# Altium integrated library con-amp-quick.IntLib: 60 symbols
Pins are listed as number, name and electrical type; pins without a type are passive.

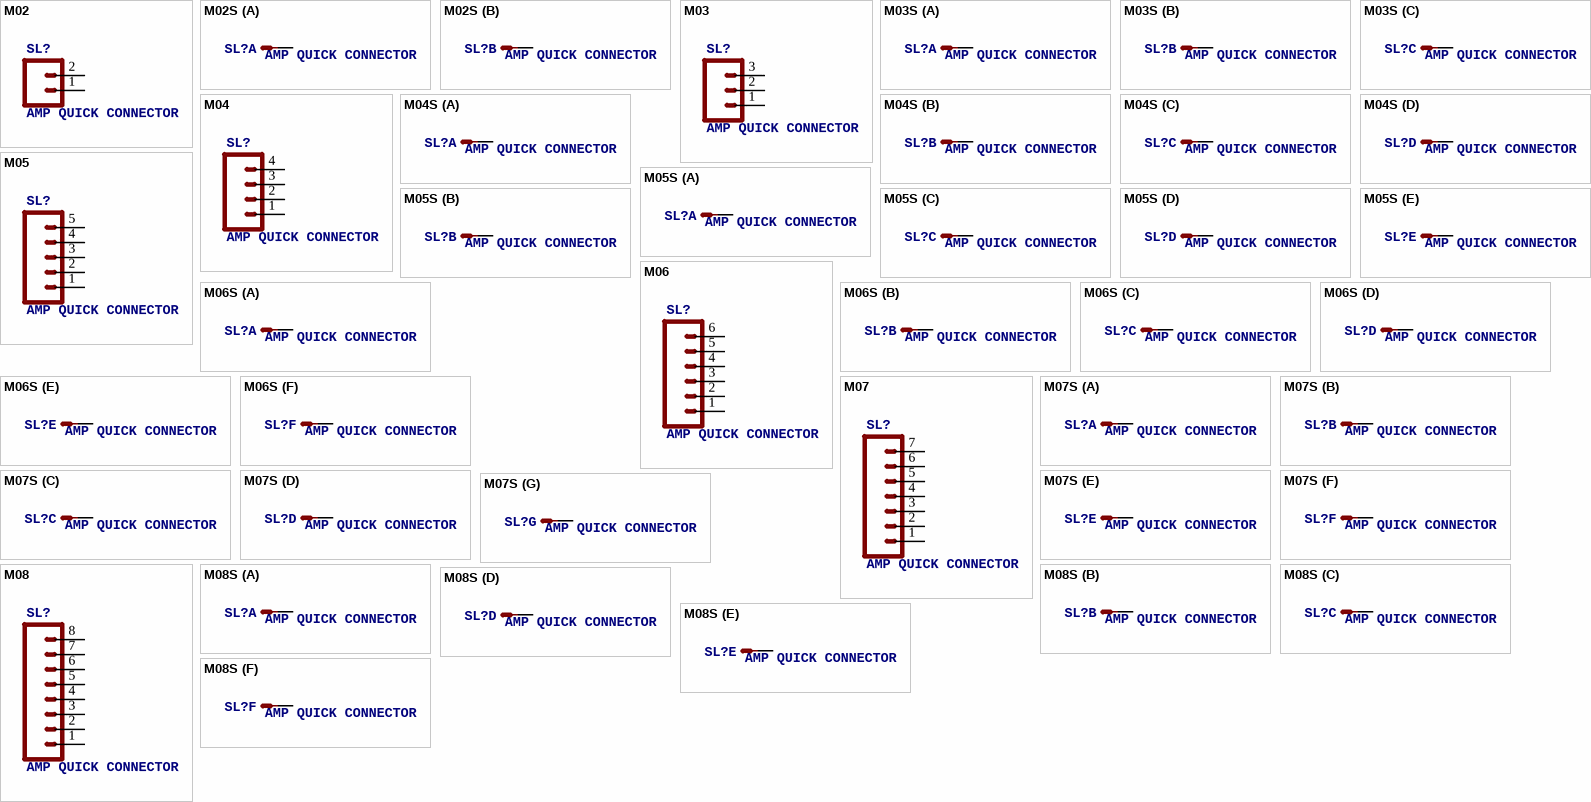
[diagram p0: symbols M02 to M08S]

## M02
designator SL?, comment AMP QUICK CONNECTOR
OC_FARNELL: unknown; OC_NEWARK: unknown
footprint 02P
pins: 1, 2

## M02S
designator SL?, comment AMP QUICK CONNECTOR
OC_FARNELL: unknown; OC_NEWARK: unknown
footprint 02P
part A pins: 1 S
part B pins: 2 S

## M03
designator SL?, comment AMP QUICK CONNECTOR
OC_FARNELL: unknown; OC_NEWARK: unknown
footprint 03P
pins: 1, 2, 3

## M03S
designator SL?, comment AMP QUICK CONNECTOR
OC_FARNELL: unknown; OC_NEWARK: unknown
footprint 03P
part A pins: 1 S
part B pins: 2 S
part C pins: 3 S

## M04
designator SL?, comment AMP QUICK CONNECTOR
OC_FARNELL: unknown; OC_NEWARK: unknown
footprint 04P
pins: 1, 2, 3, 4

## M04S
designator SL?, comment AMP QUICK CONNECTOR
OC_FARNELL: unknown; OC_NEWARK: unknown
footprint 04P
part A pins: 1 S
part B pins: 2 S
part C pins: 3 S
part D pins: 4 S

## M05
designator SL?, comment AMP QUICK CONNECTOR
OC_FARNELL: unknown; OC_NEWARK: unknown
footprint 05P
pins: 1, 2, 3, 4, 5

## M05S
designator SL?, comment AMP QUICK CONNECTOR
OC_FARNELL: unknown; OC_NEWARK: unknown
footprint 05P
part A pins: 1 S
part B pins: 2 S
part C pins: 3 S
part D pins: 4 S
part E pins: 5 S

## M06
designator SL?, comment AMP QUICK CONNECTOR
OC_FARNELL: unknown; OC_NEWARK: unknown
footprint 06P
pins: 1, 2, 3, 4, 5, 6

## M06S
designator SL?, comment AMP QUICK CONNECTOR
OC_FARNELL: unknown; OC_NEWARK: unknown
footprint 06P
part A pins: 1 S
part B pins: 2 S
part C pins: 3 S
part D pins: 4 S
part E pins: 5 S
part F pins: 6 S

## M07
designator SL?, comment AMP QUICK CONNECTOR
OC_FARNELL: unknown; OC_NEWARK: unknown
footprint 07P
pins: 1, 2, 3, 4, 5, 6, 7

## M07S
designator SL?, comment AMP QUICK CONNECTOR
OC_FARNELL: unknown; OC_NEWARK: unknown
footprint 07P
part A pins: 1 S
part B pins: 2 S
part C pins: 3 S
part D pins: 4 S
part E pins: 5 S
part F pins: 6 S
part G pins: 7 S

## M08
designator SL?, comment AMP QUICK CONNECTOR
OC_FARNELL: unknown; OC_NEWARK: unknown
footprint 08P
pins: 1, 2, 3, 4, 5, 6, 7, 8

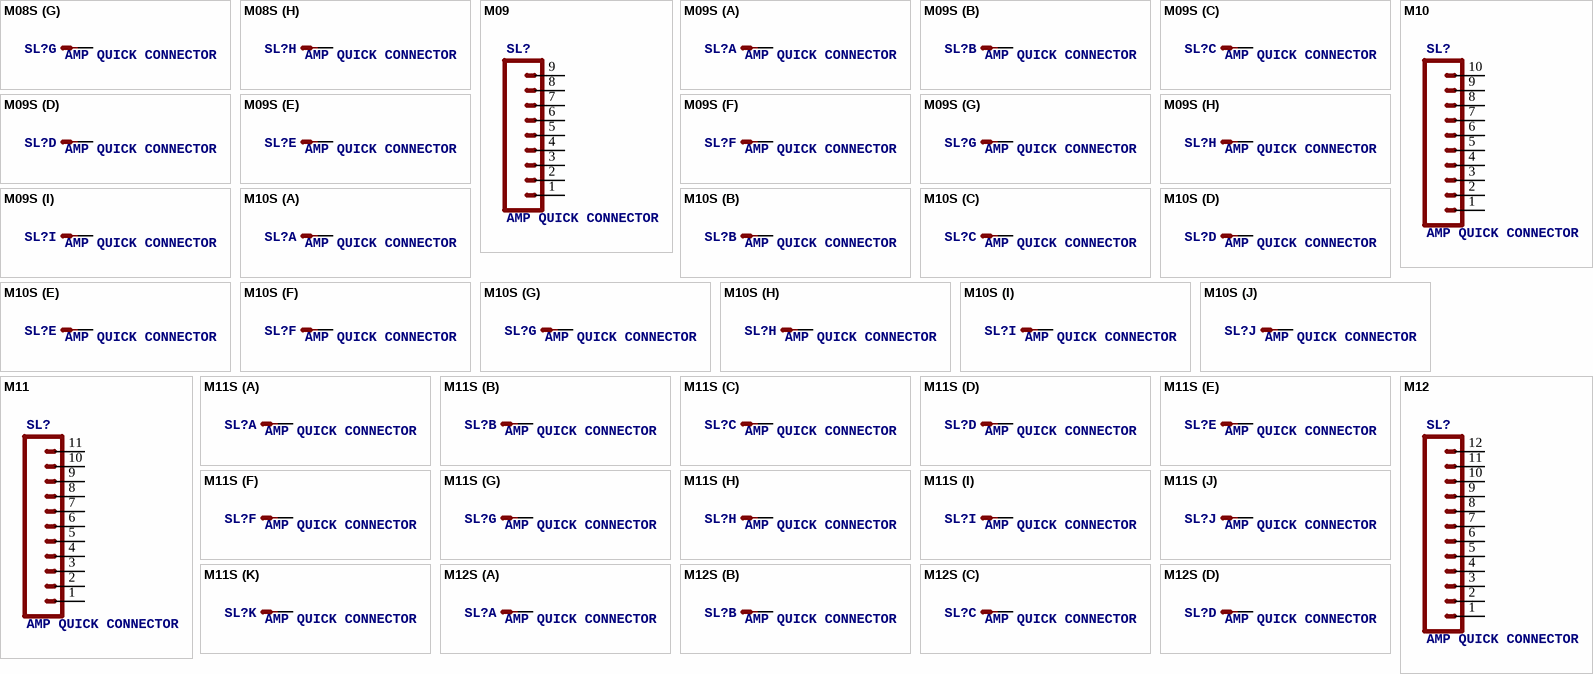
[diagram p1: symbols M08S to M12S]

## M08S
designator SL?, comment AMP QUICK CONNECTOR
OC_FARNELL: unknown; OC_NEWARK: unknown
footprint 08P
part A pins: 1 S
part B pins: 2 S
part C pins: 3 S
part D pins: 4 S
part E pins: 5 S
part F pins: 6 S
part G pins: 7 S
part H pins: 8 S

## M09
designator SL?, comment AMP QUICK CONNECTOR
OC_FARNELL: unknown; OC_NEWARK: unknown
footprint 09P
pins: 1, 2, 3, 4, 5, 6, 7, 8, 9

## M09S
designator SL?, comment AMP QUICK CONNECTOR
OC_FARNELL: unknown; OC_NEWARK: unknown
footprint 09P
part A pins: 1 S
part B pins: 2 S
part C pins: 3 S
part D pins: 4 S
part E pins: 5 S
part F pins: 6 S
part G pins: 7 S
part H pins: 8 S
part I pins: 9 S

## M10
designator SL?, comment AMP QUICK CONNECTOR
OC_FARNELL: unknown; OC_NEWARK: unknown
footprint 10P
pins: 1, 2, 3, 4, 5, 6, 7, 8, 9, 10

## M10S
designator SL?, comment AMP QUICK CONNECTOR
OC_FARNELL: unknown; OC_NEWARK: unknown
footprint 10P
part A pins: 1 S
part B pins: 2 S
part C pins: 3 S
part D pins: 4 S
part E pins: 5 S
part F pins: 6 S
part G pins: 7 S
part H pins: 8 S
part I pins: 9 S
part J pins: 10 S

## M11
designator SL?, comment AMP QUICK CONNECTOR
OC_FARNELL: unknown; OC_NEWARK: unknown
footprint 11P
pins: 1, 2, 3, 4, 5, 6, 7, 8, 9, 10, 11

## M11S
designator SL?, comment AMP QUICK CONNECTOR
OC_FARNELL: unknown; OC_NEWARK: unknown
footprint 11P
part A pins: 1 S
part B pins: 2 S
part C pins: 3 S
part D pins: 4 S
part E pins: 5 S
part F pins: 6 S
part G pins: 7 S
part H pins: 8 S
part I pins: 9 S
part J pins: 10 S
part K pins: 11 S

## M12
designator SL?, comment AMP QUICK CONNECTOR
OC_FARNELL: unknown; OC_NEWARK: unknown
footprint 12P
pins: 1, 2, 3, 4, 5, 6, 7, 8, 9, 10, 11, 12

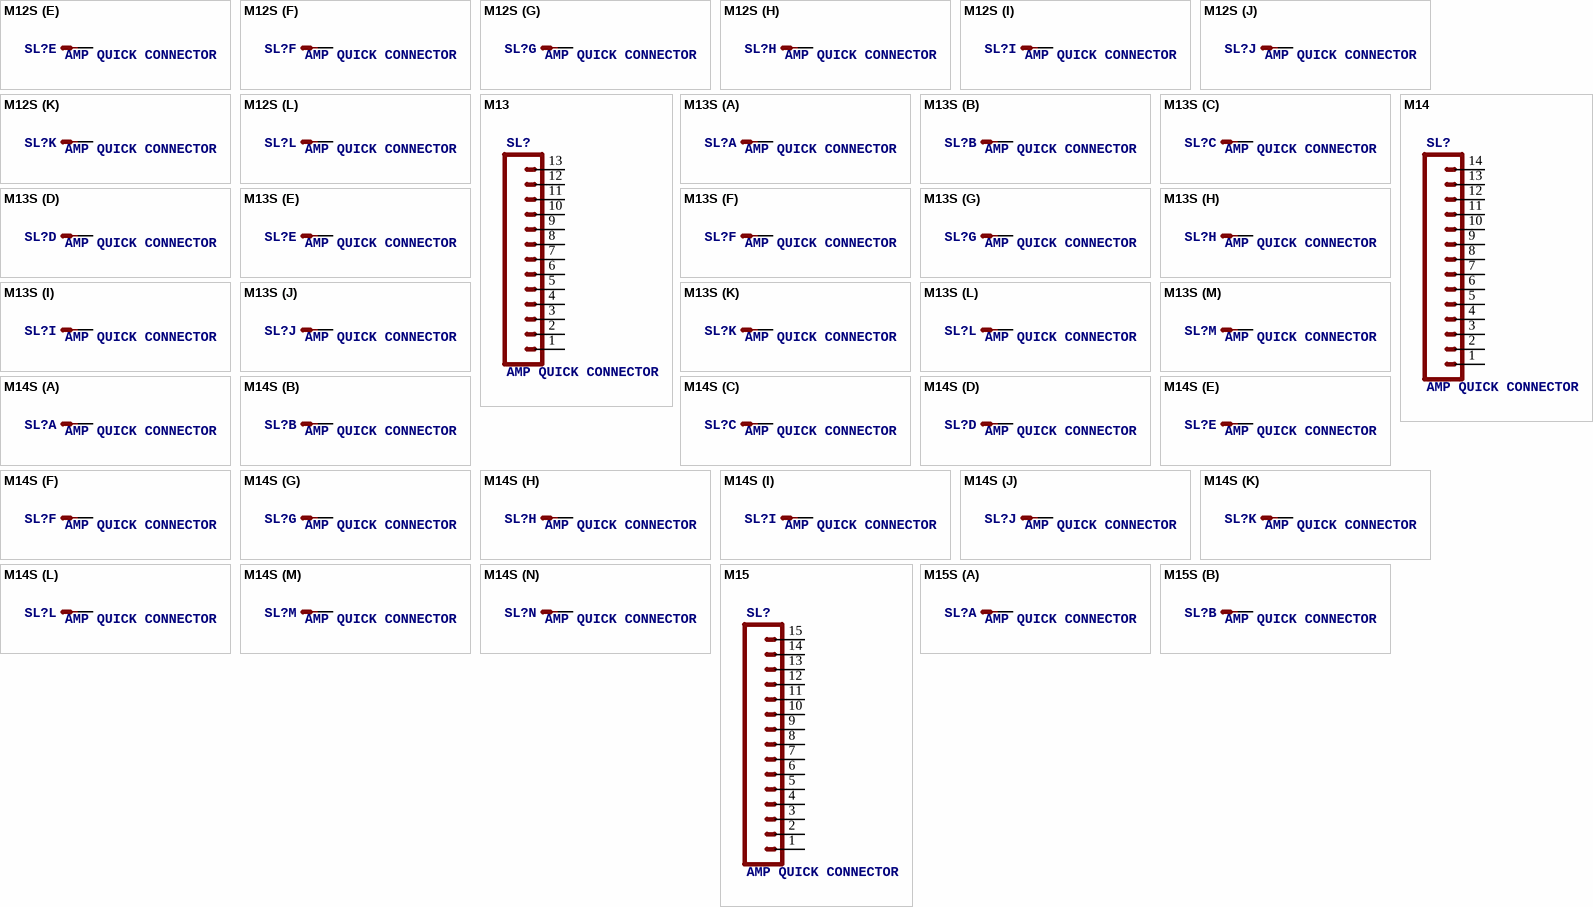
[diagram p2: symbols M12S to M15S]

## M12S
designator SL?, comment AMP QUICK CONNECTOR
OC_FARNELL: unknown; OC_NEWARK: unknown
footprint 12P
part A pins: 1 S
part B pins: 2 S
part C pins: 3 S
part D pins: 4 S
part E pins: 5 S
part F pins: 6 S
part G pins: 7 S
part H pins: 8 S
part I pins: 9 S
part J pins: 10 S
part K pins: 11 S
part L pins: 12 S

## M13
designator SL?, comment AMP QUICK CONNECTOR
OC_FARNELL: unknown; OC_NEWARK: unknown
footprint 13P
pins: 1, 2, 3, 4, 5, 6, 7, 8, 9, 10, 11, 12, 13

## M13S
designator SL?, comment AMP QUICK CONNECTOR
OC_FARNELL: unknown; OC_NEWARK: unknown
footprint 13P
part A pins: 1 S
part B pins: 2 S
part C pins: 3 S
part D pins: 4 S
part E pins: 5 S
part F pins: 6 S
part G pins: 7 S
part H pins: 8 S
part I pins: 9 S
part J pins: 10 S
part K pins: 11 S
part L pins: 12 S
part M pins: 13 S

## M14
designator SL?, comment AMP QUICK CONNECTOR
OC_FARNELL: unknown; OC_NEWARK: unknown
footprint 14P
pins: 1, 2, 3, 4, 5, 6, 7, 8, 9, 10, 11, 12, 13, 14

## M14S
designator SL?, comment AMP QUICK CONNECTOR
OC_FARNELL: unknown; OC_NEWARK: unknown
footprint 14P
part A pins: 1 S
part B pins: 2 S
part C pins: 3 S
part D pins: 4 S
part E pins: 5 S
part F pins: 6 S
part G pins: 7 S
part H pins: 8 S
part I pins: 9 S
part J pins: 10 S
part K pins: 11 S
part L pins: 12 S
part M pins: 13 S
part N pins: 14 S

## M15
designator SL?, comment AMP QUICK CONNECTOR
OC_FARNELL: unknown; OC_NEWARK: unknown
footprint 15P
pins: 1, 2, 3, 4, 5, 6, 7, 8, 9, 10, 11, 12, 13, 14, 15

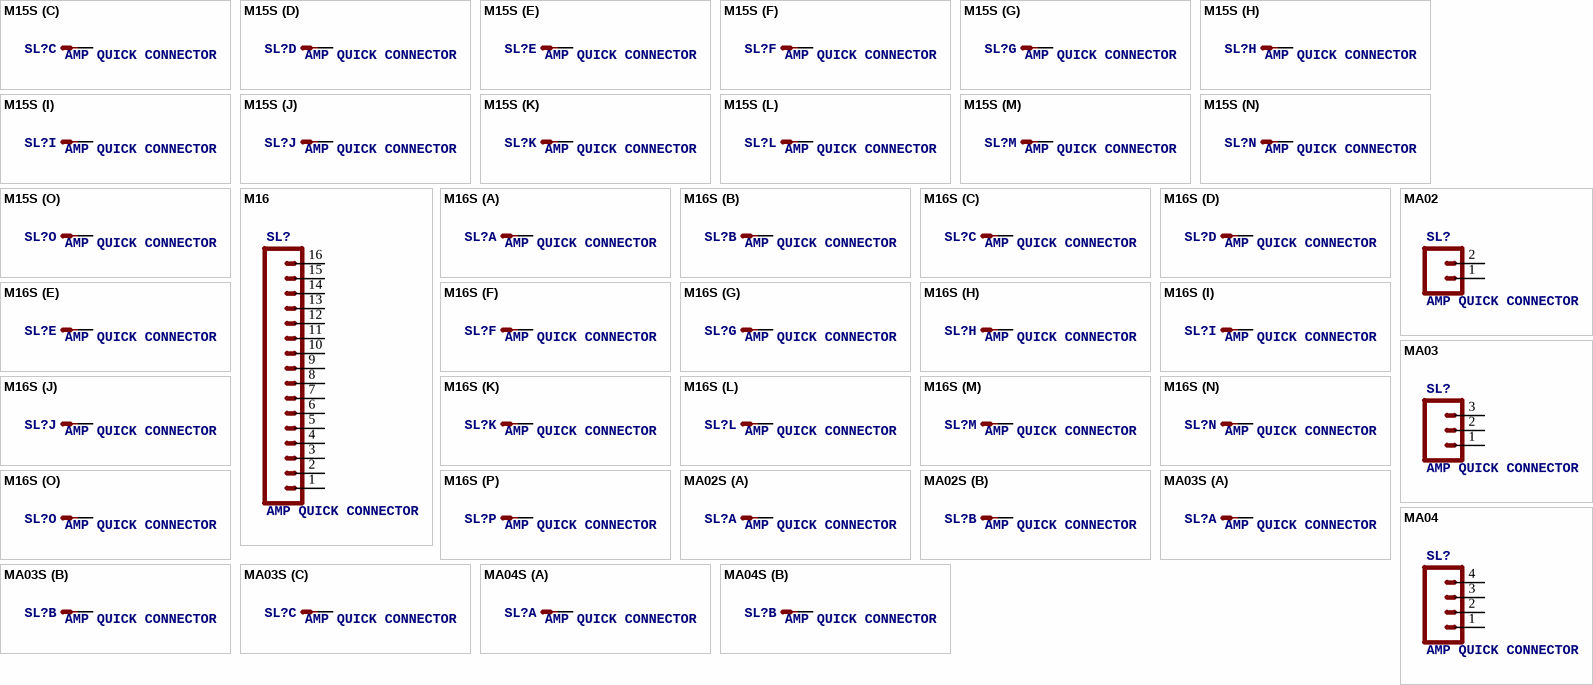
[diagram p3: symbols M15S to MA04S]

## M15S
designator SL?, comment AMP QUICK CONNECTOR
OC_FARNELL: unknown; OC_NEWARK: unknown
footprint 15P
part A pins: 1 S
part B pins: 2 S
part C pins: 3 S
part D pins: 4 S
part E pins: 5 S
part F pins: 6 S
part G pins: 7 S
part H pins: 8 S
part I pins: 9 S
part J pins: 10 S
part K pins: 11 S
part L pins: 12 S
part M pins: 13 S
part N pins: 14 S
part O pins: 15 S

## M16
designator SL?, comment AMP QUICK CONNECTOR
OC_FARNELL: unknown; OC_NEWARK: unknown
footprint 16P
pins: 1, 2, 3, 4, 5, 6, 7, 8, 9, 10, 11, 12, 13, 14, 15, 16

## M16S
designator SL?, comment AMP QUICK CONNECTOR
OC_FARNELL: unknown; OC_NEWARK: unknown
footprint 16P
part A pins: 1 S
part B pins: 2 S
part C pins: 3 S
part D pins: 4 S
part E pins: 5 S
part F pins: 6 S
part G pins: 7 S
part H pins: 8 S
part I pins: 9 S
part J pins: 10 S
part K pins: 11 S
part L pins: 12 S
part M pins: 13 S
part N pins: 14 S
part O pins: 15 S
part P pins: 16 S

## MA02
designator SL?, comment AMP QUICK CONNECTOR
OC_FARNELL: unknown; OC_NEWARK: unknown
footprint 02PA
pins: 1, 2

## MA02S
designator SL?, comment AMP QUICK CONNECTOR
OC_FARNELL: unknown; OC_NEWARK: unknown
footprint 02PA
part A pins: 1 S
part B pins: 2 S

## MA03
designator SL?, comment AMP QUICK CONNECTOR
OC_FARNELL: unknown; OC_NEWARK: unknown
footprint 03P
pins: 1, 2, 3

## MA03S
designator SL?, comment AMP QUICK CONNECTOR
OC_FARNELL: unknown; OC_NEWARK: unknown
footprint 03PA
part A pins: 1 S
part B pins: 2 S
part C pins: 3 S

## MA04
designator SL?, comment AMP QUICK CONNECTOR
OC_FARNELL: unknown; OC_NEWARK: unknown
footprint 04PA
pins: 1, 2, 3, 4

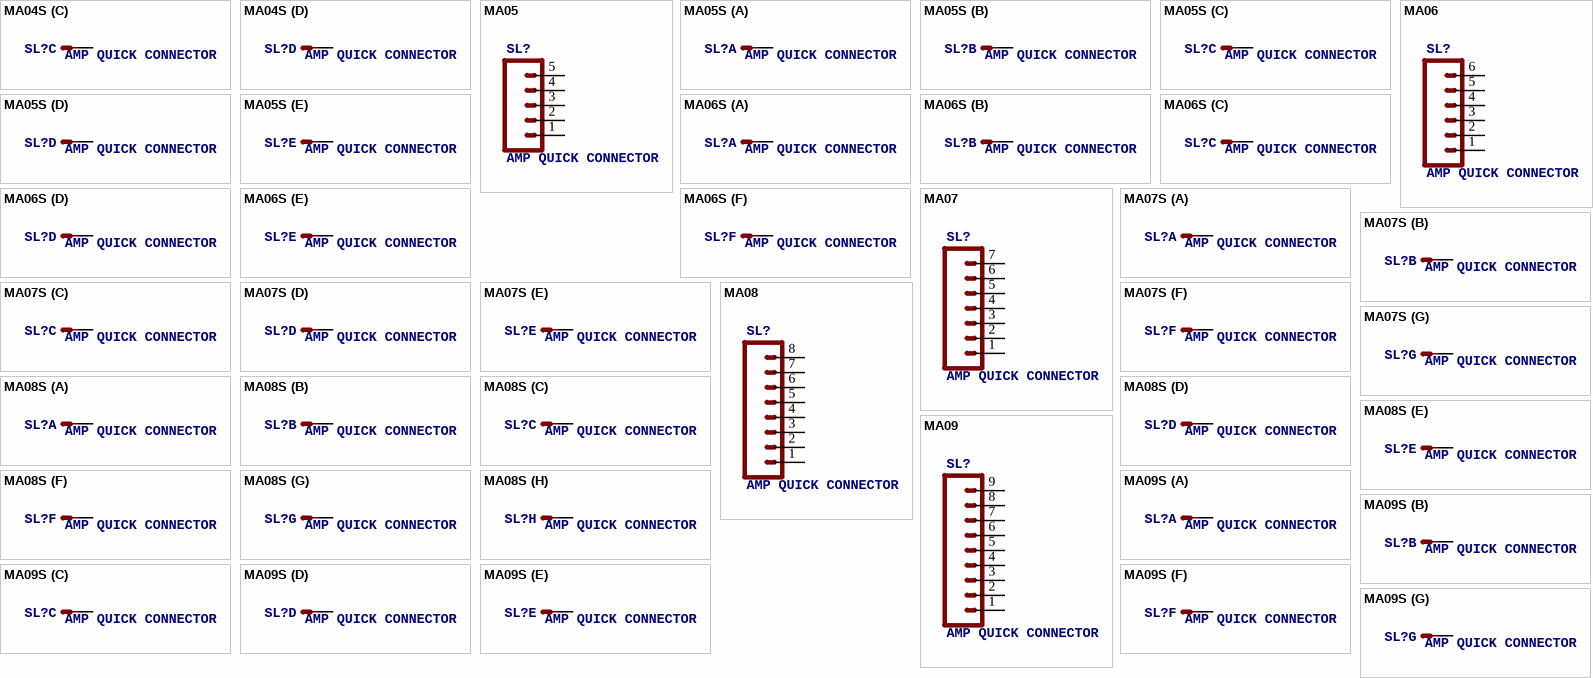
[diagram p4: symbols MA04S to MA09S]

## MA04S
designator SL?, comment AMP QUICK CONNECTOR
OC_FARNELL: unknown; OC_NEWARK: unknown
footprint 04PA
part A pins: 1 S
part B pins: 2 S
part C pins: 3 S
part D pins: 4 S

## MA05
designator SL?, comment AMP QUICK CONNECTOR
OC_FARNELL: unknown; OC_NEWARK: unknown
footprint 05PA
pins: 1, 2, 3, 4, 5

## MA05S
designator SL?, comment AMP QUICK CONNECTOR
OC_FARNELL: unknown; OC_NEWARK: unknown
footprint 05PA
part A pins: 1 S
part B pins: 2 S
part C pins: 3 S
part D pins: 4 S
part E pins: 5 S

## MA06
designator SL?, comment AMP QUICK CONNECTOR
OC_FARNELL: unknown; OC_NEWARK: unknown
footprint 06PA
pins: 1, 2, 3, 4, 5, 6

## MA06S
designator SL?, comment AMP QUICK CONNECTOR
OC_FARNELL: unknown; OC_NEWARK: unknown
footprint 06PA
part A pins: 1 S
part B pins: 2 S
part C pins: 3 S
part D pins: 4 S
part E pins: 5 S
part F pins: 6 S

## MA07
designator SL?, comment AMP QUICK CONNECTOR
OC_FARNELL: unknown; OC_NEWARK: unknown
footprint 07PA
pins: 1, 2, 3, 4, 5, 6, 7

## MA07S
designator SL?, comment AMP QUICK CONNECTOR
OC_FARNELL: unknown; OC_NEWARK: unknown
footprint 07PA
part A pins: 1 S
part B pins: 2 S
part C pins: 3 S
part D pins: 4 S
part E pins: 5 S
part F pins: 6 S
part G pins: 7 S

## MA08
designator SL?, comment AMP QUICK CONNECTOR
OC_FARNELL: unknown; OC_NEWARK: unknown
footprint 08PA
pins: 1, 2, 3, 4, 5, 6, 7, 8

## MA08S
designator SL?, comment AMP QUICK CONNECTOR
OC_FARNELL: unknown; OC_NEWARK: unknown
footprint 08PA
part A pins: 1 S
part B pins: 2 S
part C pins: 3 S
part D pins: 4 S
part E pins: 5 S
part F pins: 6 S
part G pins: 7 S
part H pins: 8 S

## MA09
designator SL?, comment AMP QUICK CONNECTOR
OC_FARNELL: unknown; OC_NEWARK: unknown
footprint 09PA
pins: 1, 2, 3, 4, 5, 6, 7, 8, 9

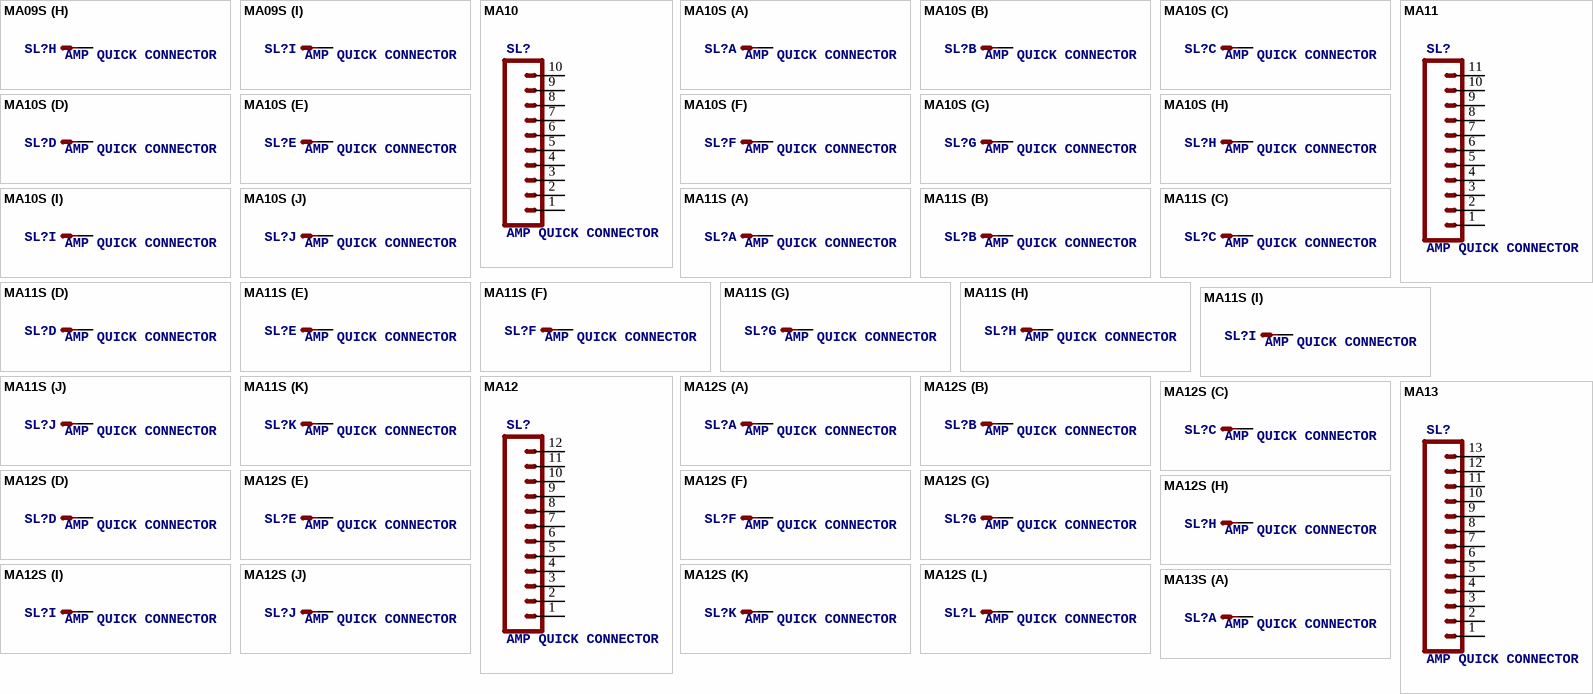
[diagram p5: symbols MA09S to MA13S]

## MA09S
designator SL?, comment AMP QUICK CONNECTOR
OC_FARNELL: unknown; OC_NEWARK: unknown
footprint 09PA
part A pins: 1 S
part B pins: 2 S
part C pins: 3 S
part D pins: 4 S
part E pins: 5 S
part F pins: 6 S
part G pins: 7 S
part H pins: 8 S
part I pins: 9 S

## MA10
designator SL?, comment AMP QUICK CONNECTOR
OC_FARNELL: unknown; OC_NEWARK: unknown
footprint 10PA
pins: 1, 2, 3, 4, 5, 6, 7, 8, 9, 10

## MA10S
designator SL?, comment AMP QUICK CONNECTOR
OC_FARNELL: unknown; OC_NEWARK: unknown
footprint 10PA
part A pins: 1 S
part B pins: 2 S
part C pins: 3 S
part D pins: 4 S
part E pins: 5 S
part F pins: 6 S
part G pins: 7 S
part H pins: 8 S
part I pins: 9 S
part J pins: 10 S

## MA11
designator SL?, comment AMP QUICK CONNECTOR
OC_FARNELL: unknown; OC_NEWARK: unknown
footprint 11PA
pins: 1, 2, 3, 4, 5, 6, 7, 8, 9, 10, 11

## MA11S
designator SL?, comment AMP QUICK CONNECTOR
OC_FARNELL: unknown; OC_NEWARK: unknown
footprint 11PA
part A pins: 1 S
part B pins: 2 S
part C pins: 3 S
part D pins: 4 S
part E pins: 5 S
part F pins: 6 S
part G pins: 7 S
part H pins: 8 S
part I pins: 9 S
part J pins: 10 S
part K pins: 11 S

## MA12
designator SL?, comment AMP QUICK CONNECTOR
OC_FARNELL: unknown; OC_NEWARK: unknown
footprint 12PA
pins: 1, 2, 3, 4, 5, 6, 7, 8, 9, 10, 11, 12

## MA12S
designator SL?, comment AMP QUICK CONNECTOR
OC_FARNELL: unknown; OC_NEWARK: unknown
footprint 12PA
part A pins: 1 S
part B pins: 2 S
part C pins: 3 S
part D pins: 4 S
part E pins: 5 S
part F pins: 6 S
part G pins: 7 S
part H pins: 8 S
part I pins: 9 S
part J pins: 10 S
part K pins: 11 S
part L pins: 12 S

## MA13
designator SL?, comment AMP QUICK CONNECTOR
OC_FARNELL: unknown; OC_NEWARK: unknown
footprint 13PA
pins: 1, 2, 3, 4, 5, 6, 7, 8, 9, 10, 11, 12, 13

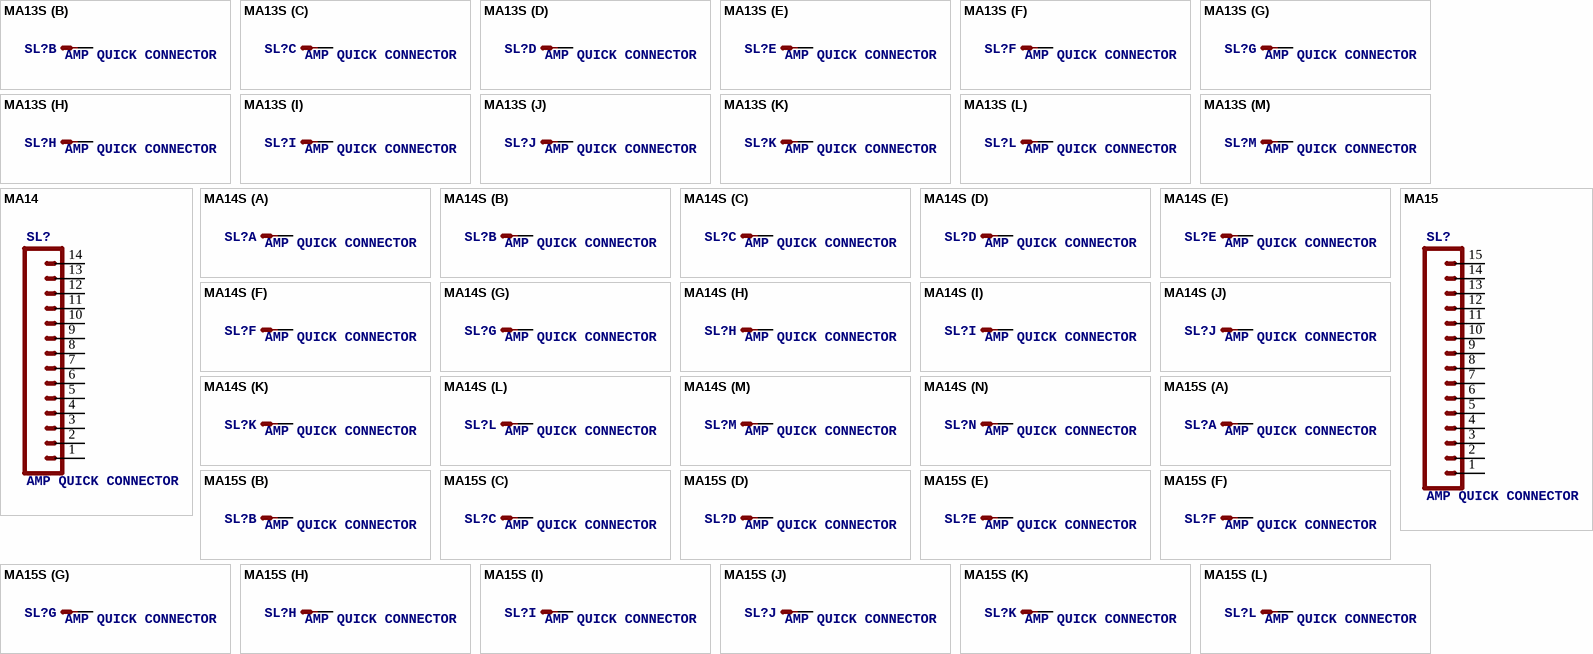
[diagram p6: symbols MA13S to MA15S]

## MA13S
designator SL?, comment AMP QUICK CONNECTOR
OC_FARNELL: unknown; OC_NEWARK: unknown
footprint 13PA
part A pins: 1 S
part B pins: 2 S
part C pins: 3 S
part D pins: 4 S
part E pins: 5 S
part F pins: 6 S
part G pins: 7 S
part H pins: 8 S
part I pins: 9 S
part J pins: 10 S
part K pins: 11 S
part L pins: 12 S
part M pins: 13 S

## MA14
designator SL?, comment AMP QUICK CONNECTOR
OC_FARNELL: unknown; OC_NEWARK: unknown
footprint 14PA
pins: 1, 2, 3, 4, 5, 6, 7, 8, 9, 10, 11, 12, 13, 14

## MA14S
designator SL?, comment AMP QUICK CONNECTOR
OC_FARNELL: unknown; OC_NEWARK: unknown
footprint 14PA
part A pins: 1 S
part B pins: 2 S
part C pins: 3 S
part D pins: 4 S
part E pins: 5 S
part F pins: 6 S
part G pins: 7 S
part H pins: 8 S
part I pins: 9 S
part J pins: 10 S
part K pins: 11 S
part L pins: 12 S
part M pins: 13 S
part N pins: 14 S

## MA15
designator SL?, comment AMP QUICK CONNECTOR
OC_FARNELL: unknown; OC_NEWARK: unknown
footprint 15PA
pins: 1, 2, 3, 4, 5, 6, 7, 8, 9, 10, 11, 12, 13, 14, 15

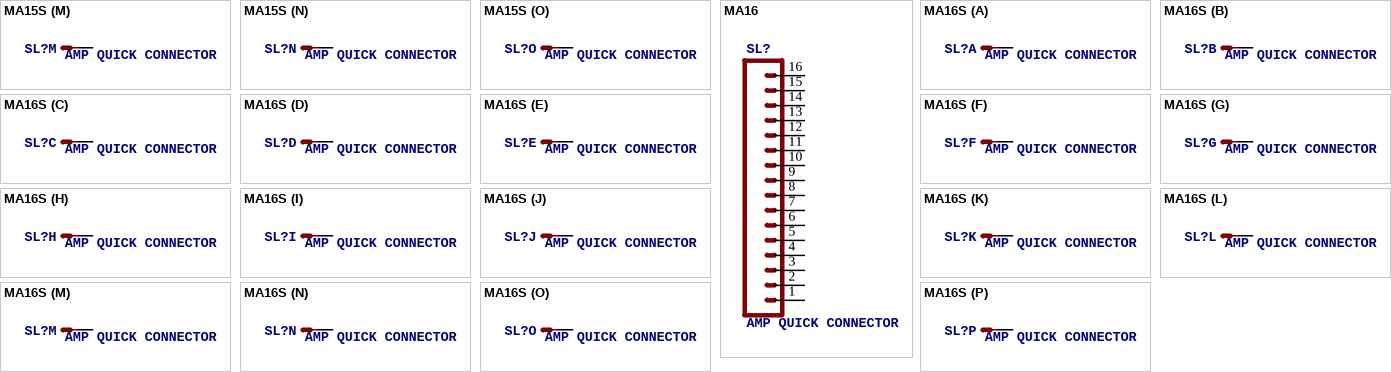
[diagram p7: symbols MA15S to MA16S]

## MA15S
designator SL?, comment AMP QUICK CONNECTOR
OC_FARNELL: unknown; OC_NEWARK: unknown
footprint 15PA
part A pins: 1 S
part B pins: 2 S
part C pins: 3 S
part D pins: 4 S
part E pins: 5 S
part F pins: 6 S
part G pins: 7 S
part H pins: 8 S
part I pins: 9 S
part J pins: 10 S
part K pins: 11 S
part L pins: 12 S
part M pins: 13 S
part N pins: 14 S
part O pins: 15 S

## MA16
designator SL?, comment AMP QUICK CONNECTOR
OC_FARNELL: unknown; OC_NEWARK: unknown
footprint 16PA
pins: 1, 2, 3, 4, 5, 6, 7, 8, 9, 10, 11, 12, 13, 14, 15, 16

## MA16S
designator SL?, comment AMP QUICK CONNECTOR
OC_FARNELL: unknown; OC_NEWARK: unknown
footprint 16PA
part A pins: 1 S
part B pins: 2 S
part C pins: 3 S
part D pins: 4 S
part E pins: 5 S
part F pins: 6 S
part G pins: 7 S
part H pins: 8 S
part I pins: 9 S
part J pins: 10 S
part K pins: 11 S
part L pins: 12 S
part M pins: 13 S
part N pins: 14 S
part O pins: 15 S
part P pins: 16 S